# Altium schematic symbol library CAR PCB(1).SchLib: 30 symbols
Pins are listed as number, name and electrical type; pins without a type are passive.

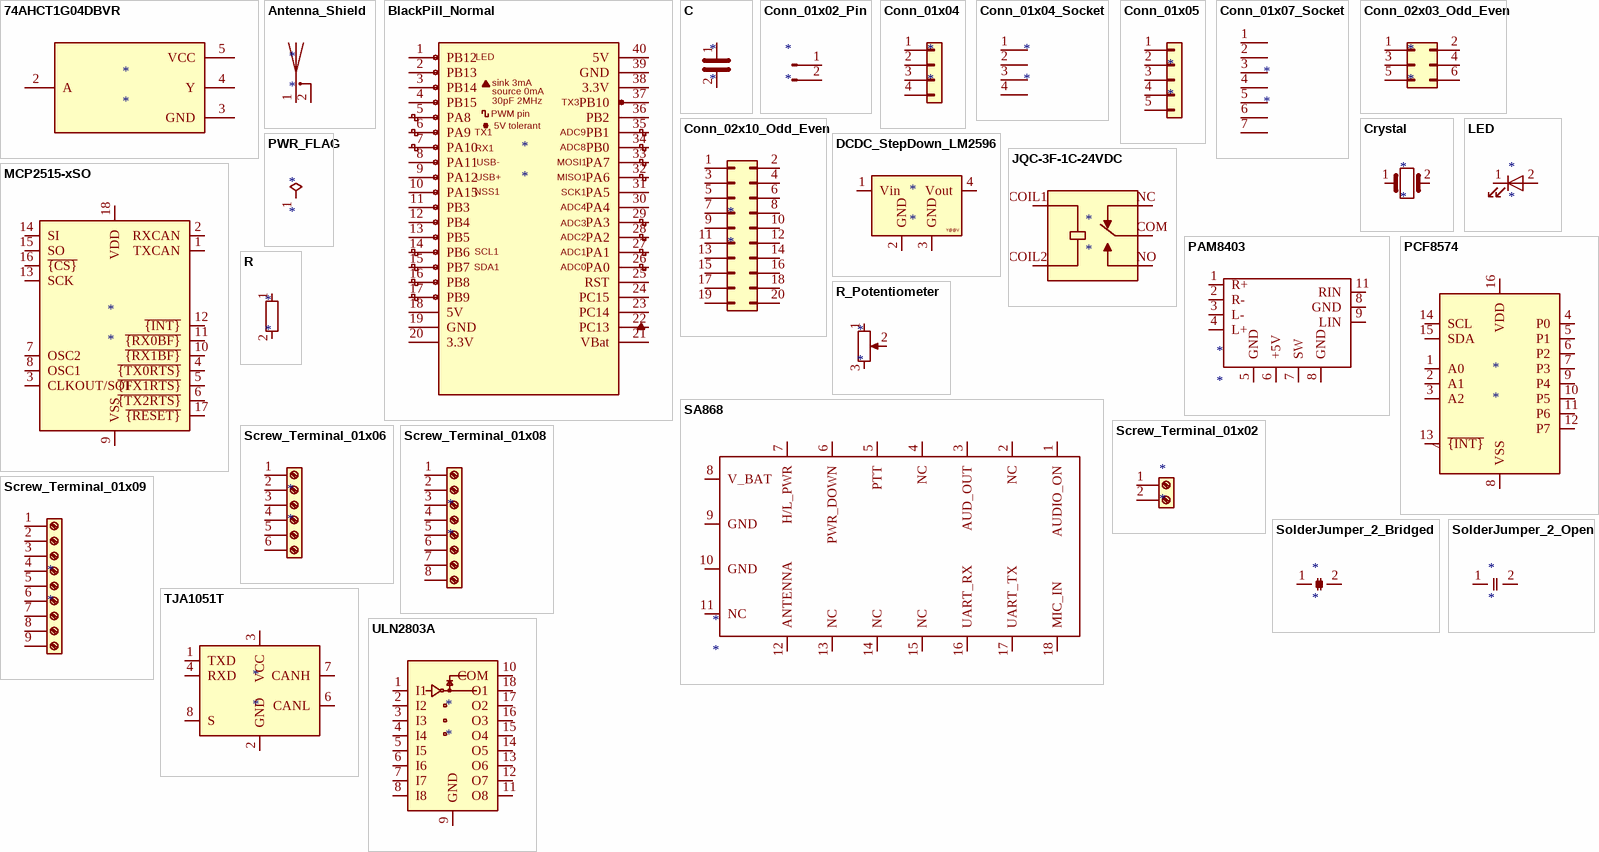
[diagram p0: symbols 74AHCT1G04DBVR to ULN2803A]

## 74AHCT1G04DBVR
designator *
pins: 2 A, 3 GND, 4 Y, 5 VCC

## Antenna_Shield
designator *
pins: 1 A, 2 Shield

## BlackPill_Normal
designator *
pins: 1 PB12, 2 PB13, 3 PB14, 4 PB15, 5 PA8, 6 PA9, 7 PA10, 8 PA11, 9 PA12, 10 PA15, 11 PB3, 12 PB4, 13 PB5, 14 PB6, 15 PB7, 16 PB8, 17 PB9, 18 5V, 19 GND, 20 3.3V, 21 VBat, 22 PC13, 23 PC14, 24 PC15, 25 RST, 26 PA0, 27 PA1, 28 PA2, 29 PA3, 30 PA4, 31 PA5, 32 PA6, 33 PA7, 34 PB0, 35 PB1, 36 PB2, 37 PB10, 38 3.3V, 39 GND, 40 5V
text: LED; sink 3mA; source 0mA; 30pF 2MHz; TX3; PWM pin; 5V tolerant; TX1; ADC9; RX1; ADC8; USB-; MOSI1; USB+; MISO1; NSS1; SCK1; ADC4; ADC3; ADC2; SCL1; ADC1; SDA1; ADC0

## C
designator *
pins: 1, 2

## Conn_01x02_Pin
designator *
pins: 1 Pin_1, 2 Pin_2

## Conn_01x04
designator *
pins: 1 Pin_1, 2 Pin_2, 3 Pin_3, 4 Pin_4

## Conn_01x04_Socket
designator *
pins: 1 Pin_1, 2 Pin_2, 3 Pin_3, 4 Pin_4

## Conn_01x05
designator *
pins: 1 Pin_1, 2 Pin_2, 3 Pin_3, 4 Pin_4, 5 Pin_5

## Conn_01x07_Socket
designator *
pins: 1 Pin_1, 2 Pin_2, 3 Pin_3, 4 Pin_4, 5 Pin_5, 6 Pin_6, 7 Pin_7

## Conn_02x03_Odd_Even
designator *
pins: 1 Pin_1, 2 Pin_2, 3 Pin_3, 4 Pin_4, 5 Pin_5, 6 Pin_6

## Conn_02x10_Odd_Even
designator *
pins: 1 Pin_1, 2 Pin_2, 3 Pin_3, 4 Pin_4, 5 Pin_5, 6 Pin_6, 7 Pin_7, 8 Pin_8, 9 Pin_9, 10 Pin_10, 11 Pin_11, 12 Pin_12, 13 Pin_13, 14 Pin_14, 15 Pin_15, 16 Pin_16, 17 Pin_17, 18 Pin_18, 19 Pin_19, 20 Pin_20

## Crystal
designator *
pins: 1, 2

## DCDC_StepDown_LM2596
designator *
pins: 1 Vin, 2 GND, 3 GND, 4 Vout
text: Y@@V

## JQC-3F-1C-24VDC
designator *
pins: COIL1, COIL2, COM, NC, NO

## LED
designator *
pins: 1 K, 2 A

## MCP2515-xSO
designator *
pins: 1 TXCAN, 2 RXCAN, 3 CLKOUT/SOF, 4 ~{{TX0RTS}}, 5 ~{{TX1RTS}}, 6 ~{{TX2RTS}}, 7 OSC2, 8 OSC1, 9 VSS, 10 ~{{RX1BF}}, 11 ~{{RX0BF}}, 12 ~{{INT}}, 13 SCK, 14 SI, 15 SO, 16 ~{{CS}}, 17 ~{{RESET}}, 18 VDD

## PAM8403
designator *
pins: 1 R+, 2 R-, 3 L-, 4 L+, 5 GND, 6 +5V, 7 SW, 8 GND, 8 GND, 9 LIN, 11 RIN

## PCF8574
designator *
pins: 1 A0, 2 A1, 3 A2, 4 P0, 5 P1, 6 P2, 7 P3, 8 VSS, 9 P4, 10 P5, 11 P6, 12 P7, 13 ~{{INT}}, 14 SCL, 15 SDA, 16 VDD

## PWR_FLAG
designator *  (graphical)
pins: 1

## R
designator *
pins: 1, 2

## R_Potentiometer
designator *
pins: 1, 2, 3

## SA868
designator *
pins: 1 AUDIO_ON, 2 NC, 3 AUD_OUT, 4 NC, 5 PTT, 6 PWR_DOWN, 7 H/L_PWR, 8 V_BAT, 9 GND, 10 GND, 11 NC, 12 ANTENNA, 13 NC, 14 NC, 15 NC, 16 UART_RX, 17 UART_TX, 18 MIC_IN

## Screw_Terminal_01x02
designator *
pins: 1 Pin_1, 2 Pin_2

## Screw_Terminal_01x06
designator *
pins: 1 Pin_1, 2 Pin_2, 3 Pin_3, 4 Pin_4, 5 Pin_5, 6 Pin_6

## Screw_Terminal_01x08
designator *
pins: 1 Pin_1, 2 Pin_2, 3 Pin_3, 4 Pin_4, 5 Pin_5, 6 Pin_6, 7 Pin_7, 8 Pin_8

## Screw_Terminal_01x09
designator *
pins: 1 Pin_1, 2 Pin_2, 3 Pin_3, 4 Pin_4, 5 Pin_5, 6 Pin_6, 7 Pin_7, 8 Pin_8, 9 Pin_9

## SolderJumper_2_Bridged
designator *
pins: 1 A, 2 B

## SolderJumper_2_Open
designator *
pins: 1 A, 2 B

## TJA1051T
designator *
pins: 1 TXD, 2 GND, 3 VCC, 4 RXD, 5 NC hidden, 6 CANL, 7 CANH, 8 S

## ULN2803A
designator *
pins: 1 I1, 2 I2, 3 I3, 4 I4, 5 I5, 6 I6, 7 I7, 8 I8, 9 GND, 10 COM, 11 O8, 12 O7, 13 O6, 14 O5, 15 O4, 16 O3, 17 O2, 18 O1